# Altium integrated library C0805C103J5RACTU.IntLib: 1 symbol
Pins are listed as number, name and electrical type; pins without a type are passive.

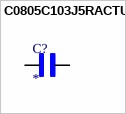
[diagram p0: symbol C0805C103J5RACTU]

## C0805C103J5RACTU
designator C?
Capacitor;Ceramic;Cap 0.01uF;Tol 5%;Vol-Rtg 50 V;SMT;Case 0805;X7R;TR | KEMET C0805C103J5RACTU; SnapEDA_Link: https://www.snapeda.com/parts/C0805C103J5RACTU/KEMET/view-part/?ref=snap; Package: 805-2 KEMET; Value: *; MF: KEMET; MP: C0805C103J5RACTU; Check_prices: https://www.snapeda.com/parts/C0805C103J5RACTU/KEMET/view-part/?ref=eda
footprint CAPC2012X88N
pins: 1, 2